# Altium integrated library Capacitor - Aluminium TH.IntLib: 4591 symbols (part 15 of 68)
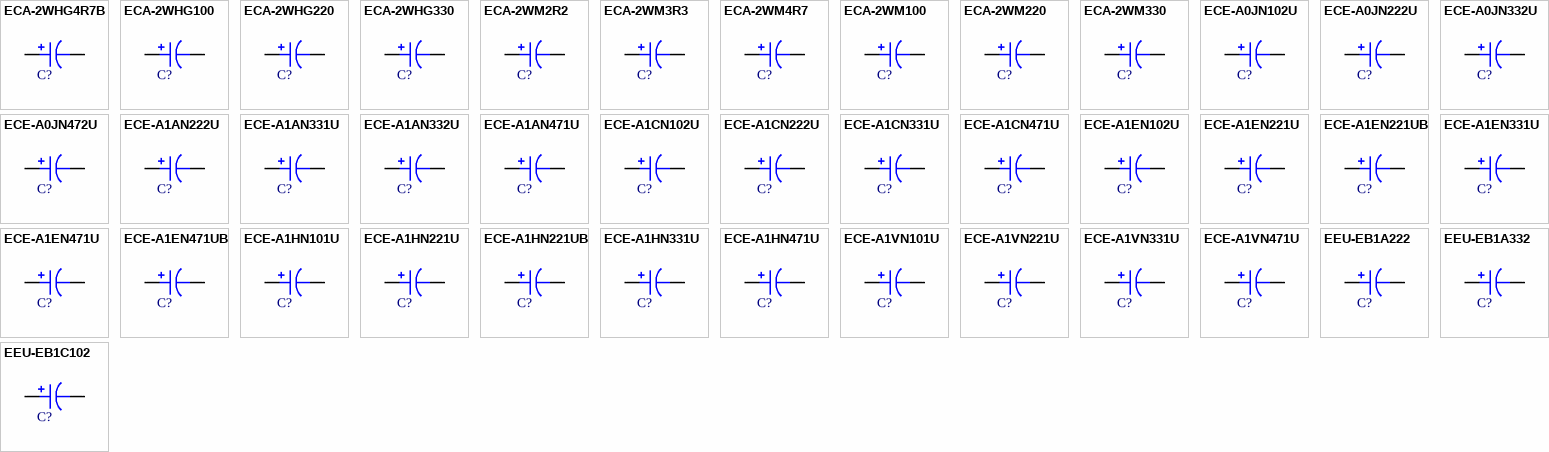
[diagram p128: symbols ECA-2WHG4R7B to EEU-EB1C102]

## ECE-A1HN221UB
designator C?, comment 220uF  (value not drawn)
CAP ALUM 220UF 20% 50V RADIAL; Part Number: ECE-A1HN221UB; Manufacturer: Panasonic Electronic Components; TemperatureRange: -40C ~ 85C; Type: Bi-Polar; Ripple Current: 360mA @ 120Hz; Value: 220uF; PartId: 24031; Supplier 1: Digi-Key; Supplier Part Number 1: P19593CT-ND; ComponentLink1Description: Datasheet; ComponentLink1URL: http://industrial.panasonic.com/cdbs/www-data/pdf/RDF0000/ABA0000C83.pdf; ComponentLink2Description: Digi-Key Listing; ComponentLink2URL: https://www.digikey.com/product-detail/en/panasonic-electronic-components/ECE-A1HN221UB/P19593CT-ND/6109491; Tolerance: 20%; Voltage: 50V; Price: 1.1; Device Package: Radial, Can, 12.5mm
footprint CAP AL TH D12.5 L5 H27
pins: 1, 2

## ECE-A1HN331U
designator C?, comment 330uF  (value not drawn)
CAP ALUM 330UF 20% 50V RADIAL; Part Number: ECE-A1HN331U; Manufacturer: Panasonic Electronic Components; TemperatureRange: -40C ~ 85C; Type: Bi-Polar; Ripple Current: 450mA @ 120Hz; Value: 330uF; PartId: 26586; Supplier 1: Digi-Key; Supplier Part Number 1: P1286-ND; ComponentLink1Description: Datasheet; ComponentLink1URL: http://industrial.panasonic.com/cdbs/www-data/pdf/RDF0000/ABA0000C83.pdf; ComponentLink2Description: Digi-Key Listing; ComponentLink2URL: https://www.digikey.com/product-detail/en/panasonic-electronic-components/ECE-A1HN331U/P1286-ND/228306; Tolerance: 20%; Voltage: 50V; Price: 1.26; Device Package: Radial, Can, 16mm
footprint CAP AL TH D16 L7.5 H26.5
pins: 1, 2

## ECE-A1HN471U
designator C?, comment 470uF  (value not drawn)
CAP ALUM 470UF 20% 50V RADIAL; Part Number: ECE-A1HN471U; Manufacturer: Panasonic Electronic Components; TemperatureRange: -40C ~ 85C; Type: Bi-Polar; Ripple Current: 590mA @ 120Hz; Value: 470uF; PartId: 27114; Supplier 1: Digi-Key; Supplier Part Number 1: P1287-ND; ComponentLink1Description: Datasheet; ComponentLink1URL: http://industrial.panasonic.com/cdbs/www-data/pdf/RDF0000/ABA0000C83.pdf; ComponentLink2Description: Digi-Key Listing; ComponentLink2URL: https://www.digikey.com/product-detail/en/panasonic-electronic-components/ECE-A1HN471U/P1287-ND/228310; Tolerance: 20%; Voltage: 50V; Price: 1.75; Device Package: Radial, Can, 16mm
footprint CAP AL TH D16 L7.5 H33.5
pins: 1, 2

## ECE-A1VN101U
designator C?, comment 100uF  (value not drawn)
CAP ALUM 100UF 20% 35V RADIAL; Part Number: ECE-A1VN101U; Manufacturer: Panasonic Electronic Components; TemperatureRange: -40C ~ 85C; Type: Bi-Polar; Ripple Current: 230mA @ 120Hz; Value: 100uF; PartId: 25346; Supplier 1: Digi-Key; Supplier Part Number 1: P1191-ND; ComponentLink1Description: Datasheet; ComponentLink1URL: http://industrial.panasonic.com/www-cgi/jvcr13pz.cgi?E+PZ+3+ABA0097+ECEA1VN101U+7+WW; ComponentLink2Description: Digi-Key Listing; ComponentLink2URL: https://www.digikey.com/product-detail/en/panasonic-electronic-components/ECE-A1VN101U/P1191-ND/227632; Tolerance: 20%; Voltage: 35V; Price: 0.68; Device Package: Radial, Can, 10mm
footprint CAP AL TH D10 L5 H17.5
pins: 1, 2

## ECE-A1VN221U
designator C?, comment 220uF  (value not drawn)
CAP ALUM 220UF 20% 35V RADIAL; Part Number: ECE-A1VN221U; Manufacturer: Panasonic Electronic Components; TemperatureRange: -40C ~ 85C; Type: Bi-Polar; Ripple Current: 360mA @ 120Hz; Value: 220uF; PartId: 22898; Supplier 1: Digi-Key; Supplier Part Number 1: P1192-ND; ComponentLink1Description: Datasheet; ComponentLink1URL: http://industrial.panasonic.com/www-cgi/jvcr13pz.cgi?E+PZ+3+ABA0097+ECEA1VN221U+7+WW; ComponentLink2Description: Digi-Key Listing; ComponentLink2URL: https://www.digikey.com/product-detail/en/panasonic-electronic-components/ECE-A1VN221U/P1192-ND/227633; Tolerance: 20%; Voltage: 35V; Price: 0; Device Package: Radial, Can, 12.5mm
footprint CAP AL TH D12.5 L5 H20
pins: 1, 2

## ECE-A1VN331U
designator C?, comment 330uF  (value not drawn)
CAP ALUM 330UF 20% 35V RADIAL; Part Number: ECE-A1VN331U; Manufacturer: Panasonic Electronic Components; TemperatureRange: -40C ~ 85C; Type: Bi-Polar; Ripple Current: 450mA @ 120Hz; Value: 330uF; PartId: 22924; Supplier 1: Digi-Key; Supplier Part Number 1: P1193-ND; ComponentLink1Description: Datasheet; ComponentLink1URL: http://industrial.panasonic.com/www-cgi/jvcr13pz.cgi?E+PZ+3+ABA0097+ECEA1VN331U+7+WW; ComponentLink2Description: Digi-Key Listing; ComponentLink2URL: https://www.digikey.com/product-detail/en/panasonic-electronic-components/ECE-A1VN331U/P1193-ND/227634; Tolerance: 20%; Voltage: 35V; Price: 0; Device Package: Radial, Can, 12.5mm
footprint CAP AL TH D12.5 L5 H20
pins: 1, 2

## ECE-A1VN471U
designator C?, comment 470uF  (value not drawn)
CAP ALUM 470UF 20% 35V RADIAL; Part Number: ECE-A1VN471U; Manufacturer: Panasonic Electronic Components; TemperatureRange: -40C ~ 85C; Type: Bi-Polar; Ripple Current: 590mA @ 120Hz; Value: 470uF; PartId: 23610; Supplier 1: Digi-Key; Supplier Part Number 1: P1194-ND; ComponentLink1Description: Datasheet; ComponentLink1URL: http://industrial.panasonic.com/www-cgi/jvcr13pz.cgi?E+PZ+3+ABA0097+ECEA1VN471U+7+WW; ComponentLink2Description: Digi-Key Listing; ComponentLink2URL: https://www.digikey.com/product-detail/en/panasonic-electronic-components/ECE-A1VN471U/P1194-ND/227635; Tolerance: 20%; Voltage: 35V; Price: 1.09; Device Package: Radial, Can, 12.5mm
footprint CAP AL TH D12.5 L5 H25
pins: 1, 2

## EEU-EB1A222
designator C?, comment 2200uF  (value not drawn)
CAP ALUM 2200UF 20% 10V RADIAL; Part Number: EEU-EB1A222; Manufacturer: Panasonic Electronic Components; TemperatureRange: -40C ~ 105C; Type: Polar; Ripple Current: 540mA @ 120Hz; Value: 2200uF; PartId: 22881; Supplier 1: Digi-Key; Supplier Part Number 1: P13115-ND; ComponentLink1Description: Datasheet; ComponentLink1URL: //media.digikey.com/pdf/Data%20Sheets/Panasonic%20Electronic%20Components/EB_Series_Rev2013.pdf; ComponentLink2Description: Digi-Key Listing; ComponentLink2URL: https://www.digikey.com/product-detail/en/panasonic-electronic-components/EEU-EB1A222/P13115-ND/813853; Tolerance: 20%; Voltage: 10V; Price: 0; Device Package: Radial, Can, 12.5mm
footprint CAP AL TH D12.5 L5 H20
pins: 1, 2

## EEU-EB1A332
designator C?, comment 3300uF  (value not drawn)
CAP ALUM 3300UF 20% 10V RADIAL; Part Number: EEU-EB1A332; Manufacturer: Panasonic Electronic Components; TemperatureRange: -40C ~ 105C; Type: Polar; Ripple Current: 802mA @ 120Hz; Value: 3300uF; PartId: 23568; Supplier 1: Digi-Key; Supplier Part Number 1: P13117-ND; ComponentLink1Description: Datasheet; ComponentLink1URL: //media.digikey.com/pdf/Data%20Sheets/Panasonic%20Electronic%20Components/EB_Series_Rev2013.pdf; ComponentLink2Description: Digi-Key Listing; ComponentLink2URL: https://www.digikey.com/product-detail/en/panasonic-electronic-components/EEU-EB1A332/P13117-ND/813855; Tolerance: 20%; Voltage: 10V; Price: 0.93; Device Package: Radial, Can, 12.5mm
footprint CAP AL TH D12.5 L5 H25
pins: 1, 2

## EEU-EB1C102
designator C?, comment 1000uF  (value not drawn)
CAP ALUM 1000UF 20% 16V RADIAL; Part Number: EEU-EB1C102; Manufacturer: Panasonic Electronic Components; TemperatureRange: -40C ~ 105C; Type: Polar; Ripple Current: 430mA @ 120Hz; Value: 1000uF; PartId: 25643; Supplier 1: Digi-Key; Supplier Part Number 1: P13119-ND; ComponentLink1Description: Datasheet; ComponentLink1URL: //media.digikey.com/pdf/Data%20Sheets/Panasonic%20Electronic%20Components/EB_Series_Rev2013.pdf; ComponentLink2Description: Digi-Key Listing; ComponentLink2URL: https://www.digikey.com/product-detail/en/panasonic-electronic-components/EEU-EB1C102/P13119-ND/700015; Tolerance: 20%; Voltage: 16V; Price: 0.74; Device Package: Radial, Can, 10mm
footprint CAP AL TH D10 L5 H22
pins: 1, 2

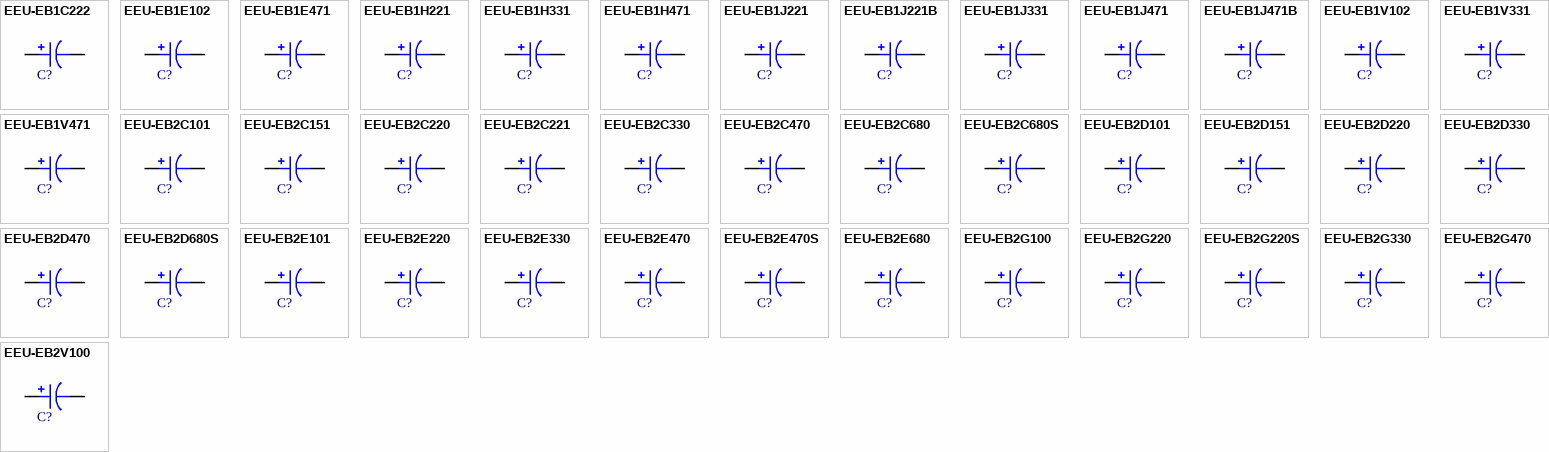
[diagram p24: symbols EEU-EB1C222 to EEU-EB2V100]

## EEU-EB1C222
designator C?, comment 2200uF  (value not drawn)
CAP ALUM 2200UF 20% 16V RADIAL; Part Number: EEU-EB1C222; Manufacturer: Panasonic Electronic Components; TemperatureRange: -40C ~ 105C; Type: Polar; Ripple Current: 706mA @ 120Hz; Value: 2200uF; PartId: 23570; Supplier 1: Digi-Key; Supplier Part Number 1: P13120-ND; ComponentLink1Description: Datasheet; ComponentLink1URL: //media.digikey.com/pdf/Data%20Sheets/Panasonic%20Electronic%20Components/EB_Series_Rev2013.pdf; ComponentLink2Description: Digi-Key Listing; ComponentLink2URL: https://www.digikey.com/product-detail/en/panasonic-electronic-components/EEU-EB1C222/P13120-ND/813857; Tolerance: 20%; Voltage: 16V; Price: 0.95; Device Package: Radial, Can, 12.5mm
footprint CAP AL TH D12.5 L5 H25
pins: 1, 2

## EEU-EB1E102
designator C?, comment 1000uF  (value not drawn)
CAP ALUM 1000UF 20% 25V RADIAL; Part Number: EEU-EB1E102; Manufacturer: Panasonic Electronic Components; TemperatureRange: -40C ~ 105C; Type: Polar; Ripple Current: 498mA @ 120Hz; Value: 1000uF; PartId: 22879; Supplier 1: Digi-Key; Supplier Part Number 1: P13121-ND; ComponentLink1Description: Datasheet; ComponentLink1URL: //media.digikey.com/pdf/Data%20Sheets/Panasonic%20Electronic%20Components/EB_Series_Rev2013.pdf; ComponentLink2Description: Digi-Key Listing; ComponentLink2URL: https://www.digikey.com/product-detail/en/panasonic-electronic-components/EEU-EB1E102/P13121-ND/725109; Tolerance: 20%; Voltage: 25V; Price: 0; Device Package: Radial, Can, 12.5mm
footprint CAP AL TH D12.5 L5 H20
pins: 1, 2

## EEU-EB1E471
designator C?, comment 470uF  (value not drawn)
CAP ALUM 470UF 20% 25V RADIAL; Part Number: EEU-EB1E471; Manufacturer: Panasonic Electronic Components; TemperatureRange: -40C ~ 105C; Type: Polar; Ripple Current: 321mA @ 120Hz; Value: 470uF; PartId: 25283; Supplier 1: Digi-Key; Supplier Part Number 1: P13124-ND; ComponentLink1Description: Datasheet; ComponentLink1URL: //media.digikey.com/pdf/Data%20Sheets/Panasonic%20Electronic%20Components/EB_Series_Rev2013.pdf; ComponentLink2Description: Digi-Key Listing; ComponentLink2URL: https://www.digikey.com/product-detail/en/panasonic-electronic-components/EEU-EB1E471/P13124-ND/813858; Tolerance: 20%; Voltage: 25V; Price: 0.63; Device Package: Radial, Can, 10mm
footprint CAP AL TH D10 L5 H17.5
pins: 1, 2

## EEU-EB1H221
designator C?, comment 220uF  (value not drawn)
CAP ALUM 220UF 20% 50V RADIAL; Part Number: EEU-EB1H221; Manufacturer: Panasonic Electronic Components; TemperatureRange: -40C ~ 105C; Type: Polar; Ripple Current: 234mA @ 120Hz; Value: 220uF; PartId: 25284; Supplier 1: Digi-Key; Supplier Part Number 1: P13131-ND; ComponentLink1Description: Datasheet; ComponentLink1URL: //media.digikey.com/pdf/Data%20Sheets/Panasonic%20Electronic%20Components/EB_Series_Rev2013.pdf; ComponentLink2Description: Digi-Key Listing; ComponentLink2URL: https://www.digikey.com/product-detail/en/panasonic-electronic-components/EEU-EB1H221/P13131-ND/813865; Tolerance: 20%; Voltage: 50V; Price: 0.63; Device Package: Radial, Can, 10mm
footprint CAP AL TH D10 L5 H17.5
pins: 1, 2

## EEU-EB1H331
designator C?, comment 330uF  (value not drawn)
CAP ALUM 330UF 20% 50V RADIAL; Part Number: EEU-EB1H331; Manufacturer: Panasonic Electronic Components; TemperatureRange: -40C ~ 105C; Type: Polar; Ripple Current: 293mA @ 120Hz; Value: 330uF; PartId: 25657; Supplier 1: Digi-Key; Supplier Part Number 1: P13133-ND; ComponentLink1Description: Datasheet; ComponentLink1URL: //media.digikey.com/pdf/Data%20Sheets/Panasonic%20Electronic%20Components/EB_Series_Rev2013.pdf; ComponentLink2Description: Digi-Key Listing; ComponentLink2URL: https://www.digikey.com/product-detail/en/panasonic-electronic-components/EEU-EB1H331/P13133-ND/813867; Tolerance: 20%; Voltage: 50V; Price: 0.75; Device Package: Radial, Can, 10mm
footprint CAP AL TH D10 L5 H22
pins: 1, 2

## EEU-EB1H471
designator C?, comment 470uF  (value not drawn)
CAP ALUM 470UF 20% 50V RADIAL; Part Number: EEU-EB1H471; Manufacturer: Panasonic Electronic Components; TemperatureRange: -40C ~ 105C; Type: Polar; Ripple Current: 370mA @ 120Hz; Value: 470uF; PartId: 22878; Supplier 1: Digi-Key; Supplier Part Number 1: P13134-ND; ComponentLink1Description: Datasheet; ComponentLink1URL: //media.digikey.com/pdf/Data%20Sheets/Panasonic%20Electronic%20Components/EB_Series_Rev2013.pdf; ComponentLink2Description: Digi-Key Listing; ComponentLink2URL: https://www.digikey.com/product-detail/en/panasonic-electronic-components/EEU-EB1H471/P13134-ND/813868; Tolerance: 20%; Voltage: 50V; Price: 0; Device Package: Radial, Can, 12.5mm
footprint CAP AL TH D12.5 L5 H20
pins: 1, 2

## EEU-EB1J221
designator C?, comment 220uF  (value not drawn)
CAP ALUM 220UF 20% 63V RADIAL; Part Number: EEU-EB1J221; Manufacturer: Panasonic Electronic Components; TemperatureRange: -40C ~ 105C; Type: Polar; Ripple Current: 292mA @ 120Hz; Value: 220uF; PartId: 25659; Supplier 1: Digi-Key; Supplier Part Number 1: P13141-ND; ComponentLink1Description: Datasheet; ComponentLink1URL: //media.digikey.com/pdf/Data%20Sheets/Panasonic%20Electronic%20Components/EB_Series_Rev2013.pdf; ComponentLink2Description: Digi-Key Listing; ComponentLink2URL: https://www.digikey.com/product-detail/en/panasonic-electronic-components/EEU-EB1J221/P13141-ND/813875; Tolerance: 20%; Voltage: 63V; Price: 0.75; Device Package: Radial, Can, 10mm
footprint CAP AL TH D10 L5 H22
pins: 1, 2

## EEU-EB1J221B
designator C?, comment 220uF  (value not drawn)
CAP ALUM 220UF 20% 63V RADIAL; Part Number: EEU-EB1J221B; Manufacturer: Panasonic Electronic Components; TemperatureRange: -40C ~ 105C; Type: Polar; Ripple Current: 292mA @ 120Hz; Value: 220uF; PartId: 25787; Supplier 1: Digi-Key; Supplier Part Number 1: P19618TB-ND; ComponentLink1Description: Datasheet; ComponentLink1URL: http://industrial.panasonic.com/www-cgi/jvcr13pz.cgi?E+PZ+3+ABA0027+EEUEB1J221B+7+WW; ComponentLink2Description: Digi-Key Listing; ComponentLink2URL: https://www.digikey.com/product-detail/en/panasonic-electronic-components/EEU-EB1J221B/P19618TB-ND/2689414; Tolerance: 20%; Voltage: 63V; Price: 0.259; Device Package: Radial, Can, 10mm
footprint CAP AL TH D10 L5 H22
pins: 1, 2

## EEU-EB1J331
designator C?, comment 330uF  (value not drawn)
CAP ALUM 330UF 20% 63V RADIAL; Part Number: EEU-EB1J331; Manufacturer: Panasonic Electronic Components; TemperatureRange: -40C ~ 105C; Type: Polar; Ripple Current: 381mA @ 120Hz; Value: 330uF; PartId: 22897; Supplier 1: Digi-Key; Supplier Part Number 1: P13144-ND; ComponentLink1Description: Datasheet; ComponentLink1URL: //media.digikey.com/pdf/Data%20Sheets/Panasonic%20Electronic%20Components/EB_Series_Rev2013.pdf; ComponentLink2Description: Digi-Key Listing; ComponentLink2URL: https://www.digikey.com/product-detail/en/panasonic-electronic-components/EEU-EB1J331/P13144-ND/813878; Tolerance: 20%; Voltage: 63V; Price: 0; Device Package: Radial, Can, 12.5mm
footprint CAP AL TH D12.5 L5 H20
pins: 1, 2

## EEU-EB1J471
designator C?, comment 470uF  (value not drawn)
CAP ALUM 470UF 20% 63V RADIAL; Part Number: EEU-EB1J471; Manufacturer: Panasonic Electronic Components; TemperatureRange: -40C ~ 105C; Type: Polar; Ripple Current: 454mA @ 120Hz; Value: 470uF; PartId: 23569; Supplier 1: Digi-Key; Supplier Part Number 1: P13147-ND; ComponentLink1Description: Datasheet; ComponentLink1URL: //media.digikey.com/pdf/Data%20Sheets/Panasonic%20Electronic%20Components/EB_Series_Rev2013.pdf; ComponentLink2Description: Digi-Key Listing; ComponentLink2URL: https://www.digikey.com/product-detail/en/panasonic-electronic-components/EEU-EB1J471/P13147-ND/813881; Tolerance: 20%; Voltage: 63V; Price: 0.95; Device Package: Radial, Can, 12.5mm
footprint CAP AL TH D12.5 L5 H25
pins: 1, 2

## EEU-EB1J471B
designator C?, comment 470uF  (value not drawn)
CAP ALUM 470UF 20% 63V RADIAL; Part Number: EEU-EB1J471B; Manufacturer: Panasonic Electronic Components; TemperatureRange: -40C ~ 105C; Type: Polar; Ripple Current: 454mA @ 120Hz; Value: 470uF; PartId: 24019; Supplier 1: Digi-Key; Supplier Part Number 1: P19620CT-ND; ComponentLink1Description: Datasheet; ComponentLink1URL: http://industrial.panasonic.com/www-cgi/jvcr13pz.cgi?E+PZ+3+ABA0027+EEUEB1J471B+7+WW; ComponentLink2Description: Digi-Key Listing; ComponentLink2URL: https://www.digikey.com/product-detail/en/panasonic-electronic-components/EEU-EB1J471B/P19620CT-ND/6109518; Tolerance: 20%; Voltage: 63V; Price: 1.07; Device Package: Radial, Can, 12.5mm
footprint CAP AL TH D12.5 L5 H27
pins: 1, 2

## EEU-EB1V102
designator C?, comment 1000uF  (value not drawn)
CAP ALUM 1000UF 20% 35V RADIAL; Part Number: EEU-EB1V102; Manufacturer: Panasonic Electronic Components; TemperatureRange: -40C ~ 105C; Type: Polar; Ripple Current: 586mA @ 120Hz; Value: 1000uF; PartId: 23566; Supplier 1: Digi-Key; Supplier Part Number 1: P13126-ND; ComponentLink1Description: Datasheet; ComponentLink1URL: //media.digikey.com/pdf/Data%20Sheets/Panasonic%20Electronic%20Components/EB_Series_Rev2013.pdf; ComponentLink2Description: Digi-Key Listing; ComponentLink2URL: https://www.digikey.com/product-detail/en/panasonic-electronic-components/EEU-EB1V102/P13126-ND/813860; Tolerance: 20%; Voltage: 35V; Price: 0.93; Device Package: Radial, Can, 12.5mm
footprint CAP AL TH D12.5 L5 H25
pins: 1, 2

## EEU-EB1V331
designator C?, comment 330uF  (value not drawn)
CAP ALUM 330UF 20% 35V RADIAL; Part Number: EEU-EB1V331; Manufacturer: Panasonic Electronic Components; TemperatureRange: -40C ~ 105C; Type: Polar; Ripple Current: 278mA @ 120Hz; Value: 330uF; PartId: 25304; Supplier 1: Digi-Key; Supplier Part Number 1: P13128-ND; ComponentLink1Description: Datasheet; ComponentLink1URL: //media.digikey.com/pdf/Data%20Sheets/Panasonic%20Electronic%20Components/EB_Series_Rev2013.pdf; ComponentLink2Description: Digi-Key Listing; ComponentLink2URL: https://www.digikey.com/product-detail/en/panasonic-electronic-components/EEU-EB1V331/P13128-ND/813862; Tolerance: 20%; Voltage: 35V; Price: 0.65; Device Package: Radial, Can, 10mm
footprint CAP AL TH D10 L5 H17.5
pins: 1, 2

## EEU-EB1V471
designator C?, comment 470uF  (value not drawn)
CAP ALUM 470UF 20% 35V RADIAL; Part Number: EEU-EB1V471; Manufacturer: Panasonic Electronic Components; TemperatureRange: -40C ~ 105C; Type: Polar; Ripple Current: 349mA @ 120Hz; Value: 470uF; PartId: 25635; Supplier 1: Digi-Key; Supplier Part Number 1: P13130-ND; ComponentLink1Description: Datasheet; ComponentLink1URL: //media.digikey.com/pdf/Data%20Sheets/Panasonic%20Electronic%20Components/EB_Series_Rev2013.pdf; ComponentLink2Description: Digi-Key Listing; ComponentLink2URL: https://www.digikey.com/product-detail/en/panasonic-electronic-components/EEU-EB1V471/P13130-ND/813864; Tolerance: 20%; Voltage: 35V; Price: 0.73; Device Package: Radial, Can, 10mm
footprint CAP AL TH D10 L5 H22
pins: 1, 2

## EEU-EB2C101
designator C?, comment 100uF  (value not drawn)
CAP ALUM 100UF 20% 160V RADIAL; Part Number: EEU-EB2C101; Manufacturer: Panasonic Electronic Components; TemperatureRange: -25C ~ 105C; Type: Polar; Ripple Current: 583mA @ 120Hz; Value: 100uF; PartId: 26585; Supplier 1: Digi-Key; Supplier Part Number 1: P5905-ND; ComponentLink1Description: Datasheet; ComponentLink1URL: //media.digikey.com/pdf/Data%20Sheets/Panasonic%20Electronic%20Components/EB_Series_Rev2013.pdf; ComponentLink2Description: Digi-Key Listing; ComponentLink2URL: https://www.digikey.com/product-detail/en/panasonic-electronic-components/EEU-EB2C101/P5905-ND/256634; Tolerance: 20%; Voltage: 160V; Price: 1.26; Device Package: Radial, Can, 16mm
footprint CAP AL TH D16 L7.5 H26.5
pins: 1, 2

## EEU-EB2C151
designator C?, comment 150uF  (value not drawn)
CAP ALUM 150UF 20% 160V RADIAL; Part Number: EEU-EB2C151; Manufacturer: Panasonic Electronic Components; TemperatureRange: -25C ~ 105C; Type: Polar; Ripple Current: 704mA @ 120Hz; Value: 150uF; PartId: 27119; Supplier 1: Digi-Key; Supplier Part Number 1: P5907-ND; ComponentLink1Description: Datasheet; ComponentLink1URL: //media.digikey.com/pdf/Data%20Sheets/Panasonic%20Electronic%20Components/EB_Series_Rev2013.pdf; ComponentLink2Description: Digi-Key Listing; ComponentLink2URL: https://www.digikey.com/product-detail/en/panasonic-electronic-components/EEU-EB2C151/P5907-ND/256636; Tolerance: 20%; Voltage: 160V; Price: 1.75; Device Package: Radial, Can, 16mm
footprint CAP AL TH D16 L7.5 H33.5
pins: 1, 2

## EEU-EB2C220
designator C?, comment 22uF  (value not drawn)
CAP ALUM 22UF 20% 160V RADIAL; Part Number: EEU-EB2C220; Manufacturer: Panasonic Electronic Components; TemperatureRange: -25C ~ 105C; Type: Polar; Ripple Current: 258.5mA @ 120Hz; Value: 22uF; PartId: 25663; Supplier 1: Digi-Key; Supplier Part Number 1: P5900-ND; ComponentLink1Description: Datasheet; ComponentLink1URL: //media.digikey.com/pdf/Data%20Sheets/Panasonic%20Electronic%20Components/EB_Series_Rev2013.pdf; ComponentLink2Description: Digi-Key Listing; ComponentLink2URL: https://www.digikey.com/product-detail/en/panasonic-electronic-components/EEU-EB2C220/P5900-ND/256629; Tolerance: 20%; Voltage: 160V; Price: 0.75; Device Package: Radial, Can, 10mm
footprint CAP AL TH D10 L5 H22
pins: 1, 2

## EEU-EB2C221
designator C?, comment 220uF  (value not drawn)
CAP ALUM 220UF 20% 160V RADIAL; Part Number: EEU-EB2C221; Manufacturer: Panasonic Electronic Components; TemperatureRange: -25C ~ 105C; Type: Polar; Ripple Current: 704mA @ 120Hz; Value: 220uF; PartId: 27118; Supplier 1: Digi-Key; Supplier Part Number 1: P5909-ND; ComponentLink1Description: Datasheet; ComponentLink1URL: //media.digikey.com/pdf/Data%20Sheets/Panasonic%20Electronic%20Components/EB_Series_Rev2013.pdf; ComponentLink2Description: Digi-Key Listing; ComponentLink2URL: https://www.digikey.com/product-detail/en/panasonic-electronic-components/EEU-EB2C221/P5909-ND/256638; Tolerance: 20%; Voltage: 160V; Price: 1.75; Device Package: Radial, Can, 16mm
footprint CAP AL TH D16 L7.5 H33.5
pins: 1, 2

## EEU-EB2C330
designator C?, comment 33uF  (value not drawn)
CAP ALUM 33UF 20% 160V RADIAL; Part Number: EEU-EB2C330; Manufacturer: Panasonic Electronic Components; TemperatureRange: -25C ~ 105C; Type: Polar; Ripple Current: 258.5mA @ 120Hz; Value: 33uF; PartId: 25660; Supplier 1: Digi-Key; Supplier Part Number 1: P5901-ND; ComponentLink1Description: Datasheet; ComponentLink1URL: //media.digikey.com/pdf/Data%20Sheets/Panasonic%20Electronic%20Components/EB_Series_Rev2013.pdf; ComponentLink2Description: Digi-Key Listing; ComponentLink2URL: https://www.digikey.com/product-detail/en/panasonic-electronic-components/EEU-EB2C330/P5901-ND/256630; Tolerance: 20%; Voltage: 160V; Price: 0.75; Device Package: Radial, Can, 10mm
footprint CAP AL TH D10 L5 H22
pins: 1, 2

## EEU-EB2C470
designator C?, comment 47uF  (value not drawn)
CAP ALUM 47UF 20% 160V RADIAL; Part Number: EEU-EB2C470; Manufacturer: Panasonic Electronic Components; TemperatureRange: -25C ~ 105C; Type: Polar; Ripple Current: 330mA @ 120Hz; Value: 47uF; PartId: 22909; Supplier 1: Digi-Key; Supplier Part Number 1: P5902-ND; ComponentLink1Description: Datasheet; ComponentLink1URL: //media.digikey.com/pdf/Data%20Sheets/Panasonic%20Electronic%20Components/EB_Series_Rev2013.pdf; ComponentLink2Description: Digi-Key Listing; ComponentLink2URL: https://www.digikey.com/product-detail/en/panasonic-electronic-components/EEU-EB2C470/P5902-ND/256631; Tolerance: 20%; Voltage: 160V; Price: 0; Device Package: Radial, Can, 12.5mm
footprint CAP AL TH D12.5 L5 H20
pins: 1, 2

## EEU-EB2C680
designator C?, comment 68uF  (value not drawn)
CAP ALUM 68UF 20% 160V RADIAL; Part Number: EEU-EB2C680; Manufacturer: Panasonic Electronic Components; TemperatureRange: -25C ~ 105C; Type: Polar; Ripple Current: 412.5mA @ 120Hz; Value: 68uF; PartId: 23571; Supplier 1: Digi-Key; Supplier Part Number 1: P5903-ND; ComponentLink1Description: Datasheet; ComponentLink1URL: //media.digikey.com/pdf/Data%20Sheets/Panasonic%20Electronic%20Components/EB_Series_Rev2013.pdf; ComponentLink2Description: Digi-Key Listing; ComponentLink2URL: https://www.digikey.com/product-detail/en/panasonic-electronic-components/EEU-EB2C680/P5903-ND/256632; Tolerance: 20%; Voltage: 160V; Price: 0.95; Device Package: Radial, Can, 12.5mm
footprint CAP AL TH D12.5 L5 H25
pins: 1, 2

## EEU-EB2C680S
designator C?, comment 68uF  (value not drawn)
CAP ALUM 68UF 20% 160V RADIAL; Part Number: EEU-EB2C680S; Manufacturer: Panasonic Electronic Components; TemperatureRange: -25C ~ 105C; Type: Polar; Ripple Current: 412.5mA @ 120Hz; Value: 68uF; PartId: 26318; Supplier 1: Digi-Key; Supplier Part Number 1: P5904-ND; ComponentLink1Description: Datasheet; ComponentLink1URL: //media.digikey.com/pdf/Data%20Sheets/Panasonic%20Electronic%20Components/EB_Series_Rev2013.pdf; ComponentLink2Description: Digi-Key Listing; ComponentLink2URL: https://www.digikey.com/product-detail/en/panasonic-electronic-components/EEU-EB2C680S/P5904-ND/256633; Tolerance: 20%; Voltage: 160V; Price: 1.26; Device Package: Radial, Can, 16mm
footprint CAP AL TH D16 L7.5 H20
pins: 1, 2

## EEU-EB2D101
designator C?, comment 100uF  (value not drawn)
CAP ALUM 100UF 20% 200V RADIAL; Part Number: EEU-EB2D101; Manufacturer: Panasonic Electronic Components; TemperatureRange: -25C ~ 105C; Type: Polar; Ripple Current: 583mA @ 120Hz; Value: 100uF; PartId: 26582; Supplier 1: Digi-Key; Supplier Part Number 1: P5917-ND; ComponentLink1Description: Datasheet; ComponentLink1URL: //media.digikey.com/pdf/Data%20Sheets/Panasonic%20Electronic%20Components/EB_Series_Rev2013.pdf; ComponentLink2Description: Digi-Key Listing; ComponentLink2URL: https://www.digikey.com/product-detail/en/panasonic-electronic-components/EEU-EB2D101/P5917-ND/256646; Tolerance: 20%; Voltage: 200V; Price: 1.24; Device Package: Radial, Can, 16mm
footprint CAP AL TH D16 L7.5 H26.5
pins: 1, 2

## EEU-EB2D151
designator C?, comment 150uF  (value not drawn)
CAP ALUM 150UF 20% 200V RADIAL; Part Number: EEU-EB2D151; Manufacturer: Panasonic Electronic Components; TemperatureRange: -25C ~ 105C; Type: Polar; Ripple Current: 704mA @ 120Hz; Value: 150uF; PartId: 27121; Supplier 1: Digi-Key; Supplier Part Number 1: P5919-ND; ComponentLink1Description: Datasheet; ComponentLink1URL: //media.digikey.com/pdf/Data%20Sheets/Panasonic%20Electronic%20Components/EB_Series_Rev2013.pdf; ComponentLink2Description: Digi-Key Listing; ComponentLink2URL: https://www.digikey.com/product-detail/en/panasonic-electronic-components/EEU-EB2D151/P5919-ND/256648; Tolerance: 20%; Voltage: 200V; Price: 1.75; Device Package: Radial, Can, 16mm
footprint CAP AL TH D16 L7.5 H33.5
pins: 1, 2

## EEU-EB2D220
designator C?, comment 22uF  (value not drawn)
CAP ALUM 22UF 20% 200V RADIAL; Part Number: EEU-EB2D220; Manufacturer: Panasonic Electronic Components; TemperatureRange: -25C ~ 105C; Type: Polar; Ripple Current: 258.5mA @ 120Hz; Value: 22uF; PartId: 25662; Supplier 1: Digi-Key; Supplier Part Number 1: P5912-ND; ComponentLink1Description: Datasheet; ComponentLink1URL: //media.digikey.com/pdf/Data%20Sheets/Panasonic%20Electronic%20Components/EB_Series_Rev2013.pdf; ComponentLink2Description: Digi-Key Listing; ComponentLink2URL: https://www.digikey.com/product-detail/en/panasonic-electronic-components/EEU-EB2D220/P5912-ND/256641; Tolerance: 20%; Voltage: 200V; Price: 0.75; Device Package: Radial, Can, 10mm
footprint CAP AL TH D10 L5 H22
pins: 1, 2

## EEU-EB2D330
designator C?, comment 33uF  (value not drawn)
CAP ALUM 33UF 20% 200V RADIAL; Part Number: EEU-EB2D330; Manufacturer: Panasonic Electronic Components; TemperatureRange: -25C ~ 105C; Type: Polar; Ripple Current: 330mA @ 120Hz; Value: 33uF; PartId: 22910; Supplier 1: Digi-Key; Supplier Part Number 1: P5913-ND; ComponentLink1Description: Datasheet; ComponentLink1URL: //media.digikey.com/pdf/Data%20Sheets/Panasonic%20Electronic%20Components/EB_Series_Rev2013.pdf; ComponentLink2Description: Digi-Key Listing; ComponentLink2URL: https://www.digikey.com/product-detail/en/panasonic-electronic-components/EEU-EB2D330/P5913-ND/256642; Tolerance: 20%; Voltage: 200V; Price: 0; Device Package: Radial, Can, 12.5mm
footprint CAP AL TH D12.5 L5 H20
pins: 1, 2

## EEU-EB2D470
designator C?, comment 47uF  (value not drawn)
CAP ALUM 47UF 20% 200V RADIAL; Part Number: EEU-EB2D470; Manufacturer: Panasonic Electronic Components; TemperatureRange: -25C ~ 105C; Type: Polar; Ripple Current: 330mA @ 120Hz; Value: 47uF; PartId: 22911; Supplier 1: Digi-Key; Supplier Part Number 1: P5914-ND; ComponentLink1Description: Datasheet; ComponentLink1URL: //media.digikey.com/pdf/Data%20Sheets/Panasonic%20Electronic%20Components/EB_Series_Rev2013.pdf; ComponentLink2Description: Digi-Key Listing; ComponentLink2URL: https://www.digikey.com/product-detail/en/panasonic-electronic-components/EEU-EB2D470/P5914-ND/256643; Tolerance: 20%; Voltage: 200V; Price: 0; Device Package: Radial, Can, 12.5mm
footprint CAP AL TH D12.5 L5 H20
pins: 1, 2

## EEU-EB2D680S
designator C?, comment 68uF  (value not drawn)
CAP ALUM 68UF 20% 200V RADIAL; Part Number: EEU-EB2D680S; Manufacturer: Panasonic Electronic Components; TemperatureRange: -25C ~ 105C; Type: Polar; Ripple Current: 412.5mA @ 120Hz; Value: 68uF; PartId: 26317; Supplier 1: Digi-Key; Supplier Part Number 1: P5916-ND; ComponentLink1Description: Datasheet; ComponentLink1URL: //media.digikey.com/pdf/Data%20Sheets/Panasonic%20Electronic%20Components/EB_Series_Rev2013.pdf; ComponentLink2Description: Digi-Key Listing; ComponentLink2URL: https://www.digikey.com/product-detail/en/panasonic-electronic-components/EEU-EB2D680S/P5916-ND/256645; Tolerance: 20%; Voltage: 200V; Price: 1.26; Device Package: Radial, Can, 16mm
footprint CAP AL TH D16 L7.5 H20
pins: 1, 2

## EEU-EB2E101
designator C?, comment 100uF  (value not drawn)
CAP ALUM 100UF 20% 250V RADIAL; Part Number: EEU-EB2E101; Manufacturer: Panasonic Electronic Components; TemperatureRange: -25C ~ 105C; Type: Polar; Ripple Current: 660mA @ 120Hz; Value: 100uF; PartId: 27108; Supplier 1: Digi-Key; Supplier Part Number 1: P5928-ND; ComponentLink1Description: Datasheet; ComponentLink1URL: //media.digikey.com/pdf/Data%20Sheets/Panasonic%20Electronic%20Components/EB_Series_Rev2013.pdf; ComponentLink2Description: Digi-Key Listing; ComponentLink2URL: https://www.digikey.com/product-detail/en/panasonic-electronic-components/EEU-EB2E101/P5928-ND/256657; Tolerance: 20%; Voltage: 250V; Price: 1.75; Device Package: Radial, Can, 16mm
footprint CAP AL TH D16 L7.5 H33.5
pins: 1, 2

## EEU-EB2E220
designator C?, comment 22uF  (value not drawn)
CAP ALUM 22UF 20% 250V RADIAL; Part Number: EEU-EB2E220; Manufacturer: Panasonic Electronic Components; TemperatureRange: -25C ~ 105C; Type: Polar; Ripple Current: 308mA @ 120Hz; Value: 22uF; PartId: 22914; Supplier 1: Digi-Key; Supplier Part Number 1: P5922-ND; ComponentLink1Description: Datasheet; ComponentLink1URL: //media.digikey.com/pdf/Data%20Sheets/Panasonic%20Electronic%20Components/EB_Series_Rev2013.pdf; ComponentLink2Description: Digi-Key Listing; ComponentLink2URL: https://www.digikey.com/product-detail/en/panasonic-electronic-components/EEU-EB2E220/P5922-ND/256651; Tolerance: 20%; Voltage: 250V; Price: 0; Device Package: Radial, Can, 12.5mm
footprint CAP AL TH D12.5 L5 H20
pins: 1, 2

## EEU-EB2E330
designator C?, comment 33uF  (value not drawn)
CAP ALUM 33UF 20% 250V RADIAL; Part Number: EEU-EB2E330; Manufacturer: Panasonic Electronic Components; TemperatureRange: -25C ~ 105C; Type: Polar; Ripple Current: 308mA @ 120Hz; Value: 33uF; PartId: 22915; Supplier 1: Digi-Key; Supplier Part Number 1: P5923-ND; ComponentLink1Description: Datasheet; ComponentLink1URL: //media.digikey.com/pdf/Data%20Sheets/Panasonic%20Electronic%20Components/EB_Series_Rev2013.pdf; ComponentLink2Description: Digi-Key Listing; ComponentLink2URL: https://www.digikey.com/product-detail/en/panasonic-electronic-components/EEU-EB2E330/P5923-ND/256652; Tolerance: 20%; Voltage: 250V; Price: 0; Device Package: Radial, Can, 12.5mm
footprint CAP AL TH D12.5 L5 H20
pins: 1, 2

## EEU-EB2E470
designator C?, comment 47uF  (value not drawn)
CAP ALUM 47UF 20% 250V RADIAL; Part Number: EEU-EB2E470; Manufacturer: Panasonic Electronic Components; TemperatureRange: -25C ~ 105C; Type: Polar; Ripple Current: 390.5mA @ 120Hz; Value: 47uF; PartId: 23577; Supplier 1: Digi-Key; Supplier Part Number 1: P5924-ND; ComponentLink1Description: Datasheet; ComponentLink1URL: //media.digikey.com/pdf/Data%20Sheets/Panasonic%20Electronic%20Components/EB_Series_Rev2013.pdf; ComponentLink2Description: Digi-Key Listing; ComponentLink2URL: https://www.digikey.com/product-detail/en/panasonic-electronic-components/EEU-EB2E470/P5924-ND/256653; Tolerance: 20%; Voltage: 250V; Price: 0.98; Device Package: Radial, Can, 12.5mm
footprint CAP AL TH D12.5 L5 H25
pins: 1, 2

## EEU-EB2E470S
designator C?, comment 47uF  (value not drawn)
CAP ALUM 47UF 20% 250V RADIAL; Part Number: EEU-EB2E470S; Manufacturer: Panasonic Electronic Components; TemperatureRange: -25C ~ 105C; Type: Polar; Ripple Current: 390.5mA @ 120Hz; Value: 47uF; PartId: 26315; Supplier 1: Digi-Key; Supplier Part Number 1: P5925-ND; ComponentLink1Description: Datasheet; ComponentLink1URL: //media.digikey.com/pdf/Data%20Sheets/Panasonic%20Electronic%20Components/EB_Series_Rev2013.pdf; ComponentLink2Description: Digi-Key Listing; ComponentLink2URL: https://www.digikey.com/product-detail/en/panasonic-electronic-components/EEU-EB2E470S/P5925-ND/256654; Tolerance: 20%; Voltage: 250V; Price: 1.26; Device Package: Radial, Can, 16mm
footprint CAP AL TH D16 L7.5 H20
pins: 1, 2

## EEU-EB2E680
designator C?, comment 68uF  (value not drawn)
CAP ALUM 68UF 20% 250V RADIAL; Part Number: EEU-EB2E680; Manufacturer: Panasonic Electronic Components; TemperatureRange: -25C ~ 105C; Type: Polar; Ripple Current: 544.5mA @ 120Hz; Value: 68uF; PartId: 26584; Supplier 1: Digi-Key; Supplier Part Number 1: P5926-ND; ComponentLink1Description: Datasheet; ComponentLink1URL: //media.digikey.com/pdf/Data%20Sheets/Panasonic%20Electronic%20Components/EB_Series_Rev2013.pdf; ComponentLink2Description: Digi-Key Listing; ComponentLink2URL: https://www.digikey.com/product-detail/en/panasonic-electronic-components/EEU-EB2E680/P5926-ND/256655; Tolerance: 20%; Voltage: 250V; Price: 1.26; Device Package: Radial, Can, 16mm
footprint CAP AL TH D16 L7.5 H26.5
pins: 1, 2

## EEU-EB2G100
designator C?, comment 10uF  (value not drawn)
CAP ALUM 10UF 20% 400V RADIAL; Part Number: EEU-EB2G100; Manufacturer: Panasonic Electronic Components; TemperatureRange: -25C ~ 105C; Type: Polar; Ripple Current: 125mA @ 120Hz; Value: 10uF; PartId: 25599; Supplier 1: Digi-Key; Supplier Part Number 1: P5939-ND; ComponentLink1Description: Datasheet; ComponentLink1URL: //media.digikey.com/pdf/Data%20Sheets/Panasonic%20Electronic%20Components/EB_Series_Rev2013.pdf; ComponentLink2Description: Digi-Key Listing; ComponentLink2URL: https://www.digikey.com/product-detail/en/panasonic-electronic-components/EEU-EB2G100/P5939-ND/256668; Tolerance: 20%; Voltage: 400V; Price: 0.69; Device Package: Radial, Can, 10mm
footprint CAP AL TH D10 L5 H22
pins: 1, 2

## EEU-EB2G220
designator C?, comment 22uF  (value not drawn)
CAP ALUM 22UF 20% 400V RADIAL; Part Number: EEU-EB2G220; Manufacturer: Panasonic Electronic Components; TemperatureRange: -25C ~ 105C; Type: Polar; Ripple Current: 205mA @ 120Hz; Value: 22uF; PartId: 23608; Supplier 1: Digi-Key; Supplier Part Number 1: P5940-ND; ComponentLink1Description: Datasheet; ComponentLink1URL: //media.digikey.com/pdf/Data%20Sheets/Panasonic%20Electronic%20Components/EB_Series_Rev2013.pdf; ComponentLink2Description: Digi-Key Listing; ComponentLink2URL: https://www.digikey.com/product-detail/en/panasonic-electronic-components/EEU-EB2G220/P5940-ND/256669; Tolerance: 20%; Voltage: 400V; Price: 1.09; Device Package: Radial, Can, 12.5mm
footprint CAP AL TH D12.5 L5 H25
pins: 1, 2

## EEU-EB2G220S
designator C?, comment 22uF  (value not drawn)
CAP ALUM 22UF 20% 400V RADIAL; Part Number: EEU-EB2G220S; Manufacturer: Panasonic Electronic Components; TemperatureRange: -25C ~ 105C; Type: Polar; Ripple Current: 205mA @ 120Hz; Value: 22uF; PartId: 26326; Supplier 1: Digi-Key; Supplier Part Number 1: P5941-ND; ComponentLink1Description: Datasheet; ComponentLink1URL: //media.digikey.com/pdf/Data%20Sheets/Panasonic%20Electronic%20Components/EB_Series_Rev2013.pdf; ComponentLink2Description: Digi-Key Listing; ComponentLink2URL: https://www.digikey.com/product-detail/en/panasonic-electronic-components/EEU-EB2G220S/P5941-ND/256670; Tolerance: 20%; Voltage: 400V; Price: 1.32; Device Package: Radial, Can, 16mm
footprint CAP AL TH D16 L7.5 H20
pins: 1, 2

## EEU-EB2G330
designator C?, comment 33uF  (value not drawn)
CAP ALUM 33UF 20% 400V RADIAL; Part Number: EEU-EB2G330; Manufacturer: Panasonic Electronic Components; TemperatureRange: -25C ~ 105C; Type: Polar; Ripple Current: 300mA @ 120Hz; Value: 33uF; PartId: 26634; Supplier 1: Digi-Key; Supplier Part Number 1: P5942-ND; ComponentLink1Description: Datasheet; ComponentLink1URL: //media.digikey.com/pdf/Data%20Sheets/Panasonic%20Electronic%20Components/EB_Series_Rev2013.pdf; ComponentLink2Description: Digi-Key Listing; ComponentLink2URL: https://www.digikey.com/product-detail/en/panasonic-electronic-components/EEU-EB2G330/P5942-ND/256671; Tolerance: 20%; Voltage: 400V; Price: 1.48; Device Package: Radial, Can, 16mm
footprint CAP AL TH D16 L7.5 H26.5
pins: 1, 2

## EEU-EB2G470
designator C?, comment 47uF  (value not drawn)
CAP ALUM 47UF 20% 400V RADIAL; Part Number: EEU-EB2G470; Manufacturer: Panasonic Electronic Components; TemperatureRange: -25C ~ 105C; Type: Polar; Ripple Current: 365mA @ 120Hz; Value: 47uF; PartId: 27174; Supplier 1: Digi-Key; Supplier Part Number 1: P5944-ND; ComponentLink1Description: Datasheet; ComponentLink1URL: //media.digikey.com/pdf/Data%20Sheets/Panasonic%20Electronic%20Components/EB_Series_Rev2013.pdf; ComponentLink2Description: Digi-Key Listing; ComponentLink2URL: https://www.digikey.com/product-detail/en/panasonic-electronic-components/EEU-EB2G470/P5944-ND/256673; Tolerance: 20%; Voltage: 400V; Price: 1.91; Device Package: Radial, Can, 16mm
footprint CAP AL TH D16 L7.5 H33.5
pins: 1, 2

## EEU-EB2V100
designator C?, comment 10uF  (value not drawn)
CAP ALUM 10UF 20% 350V RADIAL; Part Number: EEU-EB2V100; Manufacturer: Panasonic Electronic Components; TemperatureRange: -25C ~ 105C; Type: Polar; Ripple Current: 135mA @ 120Hz; Value: 10uF; PartId: 25628; Supplier 1: Digi-Key; Supplier Part Number 1: P5931-ND; ComponentLink1Description: Datasheet; ComponentLink1URL: //media.digikey.com/pdf/Data%20Sheets/Panasonic%20Electronic%20Components/EB_Series_Rev2013.pdf; ComponentLink2Description: Digi-Key Listing; ComponentLink2URL: https://www.digikey.com/product-detail/en/panasonic-electronic-components/EEU-EB2V100/P5931-ND/256660; Tolerance: 20%; Voltage: 350V; Price: 0.72; Device Package: Radial, Can, 10mm
footprint CAP AL TH D10 L5 H22
pins: 1, 2

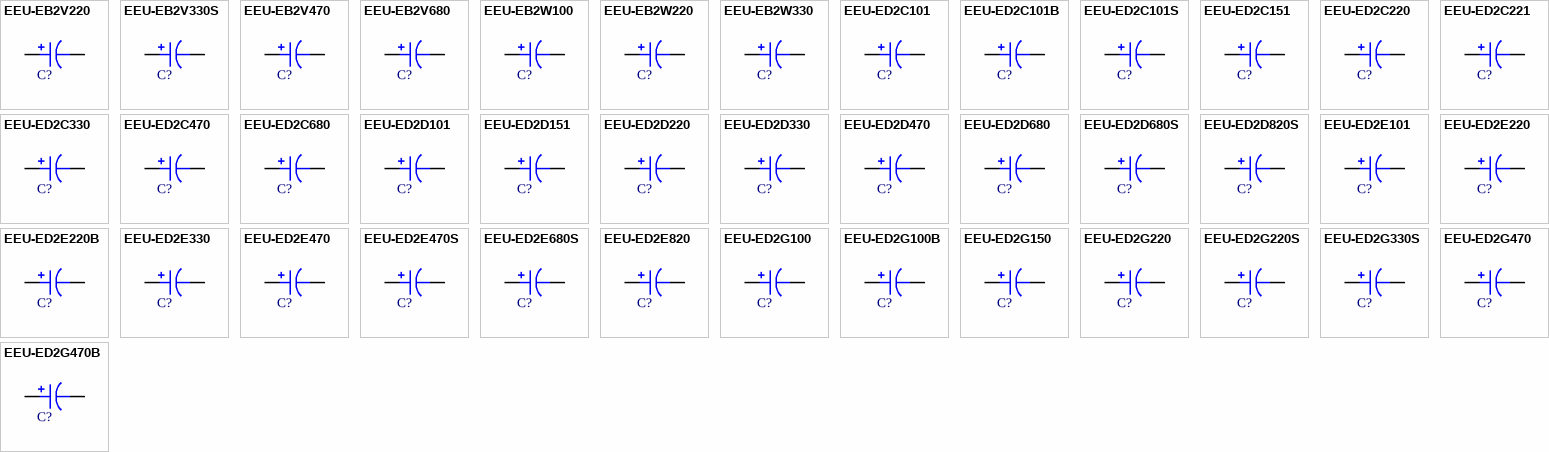
[diagram p25: symbols EEU-EB2V220 to EEU-ED2G470B]

## EEU-EB2V220
designator C?, comment 22uF  (value not drawn)
CAP ALUM 22UF 20% 350V RADIAL; Part Number: EEU-EB2V220; Manufacturer: Panasonic Electronic Components; TemperatureRange: -25C ~ 105C; Type: Polar; Ripple Current: 175mA @ 120Hz; Value: 22uF; PartId: 22922; Supplier 1: Digi-Key; Supplier Part Number 1: P5932-ND; ComponentLink1Description: Datasheet; ComponentLink1URL: //media.digikey.com/pdf/Data%20Sheets/Panasonic%20Electronic%20Components/EB_Series_Rev2013.pdf; ComponentLink2Description: Digi-Key Listing; ComponentLink2URL: https://www.digikey.com/product-detail/en/panasonic-electronic-components/EEU-EB2V220/P5932-ND/256661; Tolerance: 20%; Voltage: 350V; Price: 0; Device Package: Radial, Can, 12.5mm
footprint CAP AL TH D12.5 L5 H20
pins: 1, 2

## EEU-EB2V330S
designator C?, comment 33uF  (value not drawn)
CAP ALUM 33UF 20% 350V RADIAL; Part Number: EEU-EB2V330S; Manufacturer: Panasonic Electronic Components; TemperatureRange: -25C ~ 105C; Type: Polar; Ripple Current: 240mA @ 120Hz; Value: 33uF; PartId: 26329; Supplier 1: Digi-Key; Supplier Part Number 1: P5933-ND; ComponentLink1Description: Datasheet; ComponentLink1URL: //media.digikey.com/pdf/Data%20Sheets/Panasonic%20Electronic%20Components/EB_Series_Rev2013.pdf; ComponentLink2Description: Digi-Key Listing; ComponentLink2URL: https://www.digikey.com/product-detail/en/panasonic-electronic-components/EEU-EB2V330S/P5933-ND/256662; Tolerance: 20%; Voltage: 350V; Price: 1.37; Device Package: Radial, Can, 16mm
footprint CAP AL TH D16 L7.5 H20
pins: 1, 2

## EEU-EB2V470
designator C?, comment 47uF  (value not drawn)
CAP ALUM 47UF 20% 350V RADIAL; Part Number: EEU-EB2V470; Manufacturer: Panasonic Electronic Components; TemperatureRange: -25C ~ 105C; Type: Polar; Ripple Current: 320mA @ 120Hz; Value: 47uF; PartId: 26632; Supplier 1: Digi-Key; Supplier Part Number 1: P5934-ND; ComponentLink1Description: Datasheet; ComponentLink1URL: //media.digikey.com/pdf/Data%20Sheets/Panasonic%20Electronic%20Components/EB_Series_Rev2013.pdf; ComponentLink2Description: Digi-Key Listing; ComponentLink2URL: https://www.digikey.com/product-detail/en/panasonic-electronic-components/EEU-EB2V470/P5934-ND/256663; Tolerance: 20%; Voltage: 350V; Price: 1.48; Device Package: Radial, Can, 16mm
footprint CAP AL TH D16 L7.5 H26.5
pins: 1, 2

## EEU-EB2V680
designator C?, comment 68uF  (value not drawn)
CAP ALUM 68UF 20% 350V RADIAL; Part Number: EEU-EB2V680; Manufacturer: Panasonic Electronic Components; TemperatureRange: -25C ~ 105C; Type: Polar; Ripple Current: 390mA @ 120Hz; Value: 68uF; PartId: 27175; Supplier 1: Digi-Key; Supplier Part Number 1: P5936-ND; ComponentLink1Description: Datasheet; ComponentLink1URL: //media.digikey.com/pdf/Data%20Sheets/Panasonic%20Electronic%20Components/EB_Series_Rev2013.pdf; ComponentLink2Description: Digi-Key Listing; ComponentLink2URL: https://www.digikey.com/product-detail/en/panasonic-electronic-components/EEU-EB2V680/P5936-ND/256665; Tolerance: 20%; Voltage: 350V; Price: 1.91; Device Package: Radial, Can, 16mm
footprint CAP AL TH D16 L7.5 H33.5
pins: 1, 2

## EEU-EB2W100
designator C?, comment 10uF  (value not drawn)
CAP ALUM 10UF 20% 450V RADIAL; Part Number: EEU-EB2W100; Manufacturer: Panasonic Electronic Components; TemperatureRange: -25C ~ 105C; Type: Polar; Ripple Current: 155mA @ 120Hz; Value: 10uF; PartId: 22920; Supplier 1: Digi-Key; Supplier Part Number 1: P5946-ND; ComponentLink1Description: Datasheet; ComponentLink1URL: //media.digikey.com/pdf/Data%20Sheets/Panasonic%20Electronic%20Components/EB_Series_Rev2013.pdf; ComponentLink2Description: Digi-Key Listing; ComponentLink2URL: https://www.digikey.com/product-detail/en/panasonic-electronic-components/EEU-EB2W100/P5946-ND/256675; Tolerance: 20%; Voltage: 450V; Price: 0; Device Package: Radial, Can, 12.5mm
footprint CAP AL TH D12.5 L5 H20
pins: 1, 2

## EEU-EB2W220
designator C?, comment 22uF  (value not drawn)
CAP ALUM 22UF 20% 450V RADIAL; Part Number: EEU-EB2W220; Manufacturer: Panasonic Electronic Components; TemperatureRange: -25C ~ 105C; Type: Polar; Ripple Current: 280mA @ 120Hz; Value: 22uF; PartId: 26633; Supplier 1: Digi-Key; Supplier Part Number 1: P5947-ND; ComponentLink1Description: Datasheet; ComponentLink1URL: //media.digikey.com/pdf/Data%20Sheets/Panasonic%20Electronic%20Components/EB_Series_Rev2013.pdf; ComponentLink2Description: Digi-Key Listing; ComponentLink2URL: https://www.digikey.com/product-detail/en/panasonic-electronic-components/EEU-EB2W220/P5947-ND/256676; Tolerance: 20%; Voltage: 450V; Price: 1.48; Device Package: Radial, Can, 16mm
footprint CAP AL TH D16 L7.5 H26.5
pins: 1, 2

## EEU-EB2W330
designator C?, comment 33uF  (value not drawn)
CAP ALUM 33UF 20% 450V RADIAL; Part Number: EEU-EB2W330; Manufacturer: Panasonic Electronic Components; TemperatureRange: -25C ~ 105C; Type: Polar; Ripple Current: 340mA @ 120Hz; Value: 33uF; PartId: 27148; Supplier 1: Digi-Key; Supplier Part Number 1: P5949-ND; ComponentLink1Description: Datasheet; ComponentLink1URL: //media.digikey.com/pdf/Data%20Sheets/Panasonic%20Electronic%20Components/EB_Series_Rev2013.pdf; ComponentLink2Description: Digi-Key Listing; ComponentLink2URL: https://www.digikey.com/product-detail/en/panasonic-electronic-components/EEU-EB2W330/P5949-ND/256678; Tolerance: 20%; Voltage: 450V; Price: 1.84; Device Package: Radial, Can, 16mm
footprint CAP AL TH D16 L7.5 H33.5
pins: 1, 2

## EEU-ED2C101
designator C?, comment 100uF  (value not drawn)
CAP ALUM 100UF 20% 160V RADIAL; Part Number: EEU-ED2C101; Manufacturer: Panasonic Electronic Components; TemperatureRange: -25C ~ 105C; Type: Polar; Ripple Current: 526.5mA @ 120Hz; Value: 100uF; PartId: 23600; Supplier 1: Digi-Key; Supplier Part Number 1: P13506-ND; ComponentLink1Description: Datasheet; ComponentLink1URL: http://industrial.panasonic.com/cdbs/www-data/pdf/RDF0000/ABA0000CE86.pdf; ComponentLink2Description: Digi-Key Listing; ComponentLink2URL: https://www.digikey.com/product-detail/en/panasonic-electronic-components/EEU-ED2C101/P13506-ND/1086731; Tolerance: 20%; Voltage: 160V; Price: 1.05; Device Package: Radial, Can, 12.5mm
footprint CAP AL TH D12.5 L5 H25
pins: 1, 2

## EEU-ED2C101B
designator C?, comment 100uF  (value not drawn)
CAP ALUM 100UF 20% 160V RADIAL; Part Number: EEU-ED2C101B; Manufacturer: Panasonic Electronic Components; TemperatureRange: -25C ~ 105C; Type: Polar; Ripple Current: 526.5mA @ 120Hz; Value: 100uF; PartId: 23833; Supplier 1: Digi-Key; Supplier Part Number 1: P19623TB-ND; ComponentLink1Description: Datasheet; ComponentLink1URL: http://industrial.panasonic.com/cdbs/www-data/pdf/RDF0000/ABA0000CE86.pdf; ComponentLink2Description: Digi-Key Listing; ComponentLink2URL: https://www.digikey.com/product-detail/en/panasonic-electronic-components/EEU-ED2C101B/P19623TB-ND/2689449; Tolerance: 20%; Voltage: 160V; Price: 0.4675; Device Package: Radial, Can, 12.5mm
footprint CAP AL TH D12.5 L5 H27
pins: 1, 2

## EEU-ED2C101S
designator C?, comment 100uF  (value not drawn)
CAP ALUM 100UF 20% 160V RADIAL; Part Number: EEU-ED2C101S; Manufacturer: Panasonic Electronic Components; TemperatureRange: -25C ~ 105C; Type: Polar; Ripple Current: 576mA @ 120Hz; Value: 100uF; PartId: 26322; Supplier 1: Digi-Key; Supplier Part Number 1: P13507-ND; ComponentLink1Description: Datasheet; ComponentLink1URL: http://industrial.panasonic.com/www-cgi/jvcr13pz.cgi?E+PZ+3+ABA0123+EEUED2C101S+7+WW; ComponentLink2Description: Digi-Key Listing; ComponentLink2URL: https://www.digikey.com/product-detail/en/panasonic-electronic-components/EEU-ED2C101S/P13507-ND/1086732; Tolerance: 20%; Voltage: 160V; Price: 1.32; Device Package: Radial, Can, 16mm
footprint CAP AL TH D16 L7.5 H20
pins: 1, 2

## EEU-ED2C151
designator C?, comment 150uF  (value not drawn)
CAP ALUM 150UF 20% 160V RADIAL; Part Number: EEU-ED2C151; Manufacturer: Panasonic Electronic Components; TemperatureRange: -25C ~ 105C; Type: Polar; Ripple Current: 630mA @ 120Hz; Value: 150uF; PartId: 26626; Supplier 1: Digi-Key; Supplier Part Number 1: P13508-ND; ComponentLink1Description: Datasheet; ComponentLink1URL: http://industrial.panasonic.com/cdbs/www-data/pdf/RDF0000/ABA0000CE86.pdf; ComponentLink2Description: Digi-Key Listing; ComponentLink2URL: https://www.digikey.com/product-detail/en/panasonic-electronic-components/EEU-ED2C151/P13508-ND/1086733; Tolerance: 20%; Voltage: 160V; Price: 1.43; Device Package: Radial, Can, 16mm
footprint CAP AL TH D16 L7.5 H26.5
pins: 1, 2

## EEU-ED2C220
designator C?, comment 22uF  (value not drawn)
CAP ALUM 22UF 20% 160V RADIAL; Part Number: EEU-ED2C220; Manufacturer: Panasonic Electronic Components; TemperatureRange: -25C ~ 105C; Type: Polar; Ripple Current: 200mA @ 120Hz; Value: 22uF; PartId: 25567; Supplier 1: Digi-Key; Supplier Part Number 1: P13510-ND; ComponentLink1Description: Datasheet; ComponentLink1URL: http://industrial.panasonic.com/cdbs/www-data/pdf/RDF0000/ABA0000CE86.pdf; ComponentLink2Description: Digi-Key Listing; ComponentLink2URL: https://www.digikey.com/product-detail/en/panasonic-electronic-components/EEU-ED2C220/P13510-ND/1086735; Tolerance: 20%; Voltage: 160V; Price: 0.65; Device Package: Radial, Can, 10mm
footprint CAP AL TH D10 L5 H22
pins: 1, 2

## EEU-ED2C221
designator C?, comment 220uF  (value not drawn)
CAP ALUM 220UF 20% 160V RADIAL; Part Number: EEU-ED2C221; Manufacturer: Panasonic Electronic Components; TemperatureRange: -25C ~ 105C; Type: Polar; Ripple Current: 765mA @ 120Hz; Value: 220uF; PartId: 27158; Supplier 1: Digi-Key; Supplier Part Number 1: P13511-ND; ComponentLink1Description: Datasheet; ComponentLink1URL: http://industrial.panasonic.com/cdbs/www-data/pdf/RDF0000/ABA0000CE86.pdf; ComponentLink2Description: Digi-Key Listing; ComponentLink2URL: https://www.digikey.com/product-detail/en/panasonic-electronic-components/EEU-ED2C221/P13511-ND/1086736; Tolerance: 20%; Voltage: 160V; Price: 1.87; Device Package: Radial, Can, 16mm
footprint CAP AL TH D16 L7.5 H33.5
pins: 1, 2

## EEU-ED2C330
designator C?, comment 33uF  (value not drawn)
CAP ALUM 33UF 20% 160V RADIAL; Part Number: EEU-ED2C330; Manufacturer: Panasonic Electronic Components; TemperatureRange: -25C ~ 105C; Type: Polar; Ripple Current: 232mA @ 120Hz; Value: 33uF; PartId: 25568; Supplier 1: Digi-Key; Supplier Part Number 1: P13513-ND; ComponentLink1Description: Datasheet; ComponentLink1URL: http://industrial.panasonic.com/cdbs/www-data/pdf/RDF0000/ABA0000CE86.pdf; ComponentLink2Description: Digi-Key Listing; ComponentLink2URL: https://www.digikey.com/product-detail/en/panasonic-electronic-components/EEU-ED2C330/P13513-ND/1086738; Tolerance: 20%; Voltage: 160V; Price: 0.65; Device Package: Radial, Can, 10mm
footprint CAP AL TH D10 L5 H22
pins: 1, 2